# Altium schematic symbol library IC_TouchControllers.SchLib: 1 symbol
Pins are listed as number, name and electrical type; pins without a type are passive.

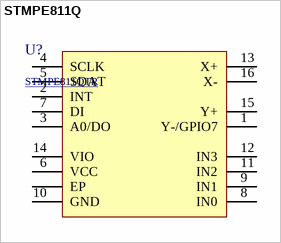
[diagram p0: symbol STMPE811Q]

## STMPE811Q
designator U?, comment STMPE811QTR
Single Channel Capacitive Proximity/Touch Controller; Resolution: 12b; Current: 1mA; HelpURL: https://www.mouser.com/ds/2/389/stmpe811-1309299.pdf; Name: STMPE811QTR; Supplier: https://www.digikey.com/product-detail/en/stmicroelectronics/STMPE811QTR/497-8387-1-ND/1973335
footprint QFN-16-0.5-3x3_TP
pins: 0 EP, 1 Y-/GPIO7, 2 INT, 3 A0/DO, 4 SCLK, 5 SDAT, 6 VCC, 7 DI, 8 IN0, 9 IN1, 10 GND, 11 IN2, 12 IN3, 13 X+, 14 VIO, 15 Y+, 16 X-